# Altium footprint library Sheye-model.PcbLib: 19 footprints (part 1 of 2)
Each footprint in its own frame and in the unit in brackets; x right, y up, seen from the top. Pads: shape width x height; smd on the part's side, far side on the other; paste and mask are expansions set on the pad; w line width, h text height; cw(c..) or ccw(c..) is an arc to the next point about the centre after c.
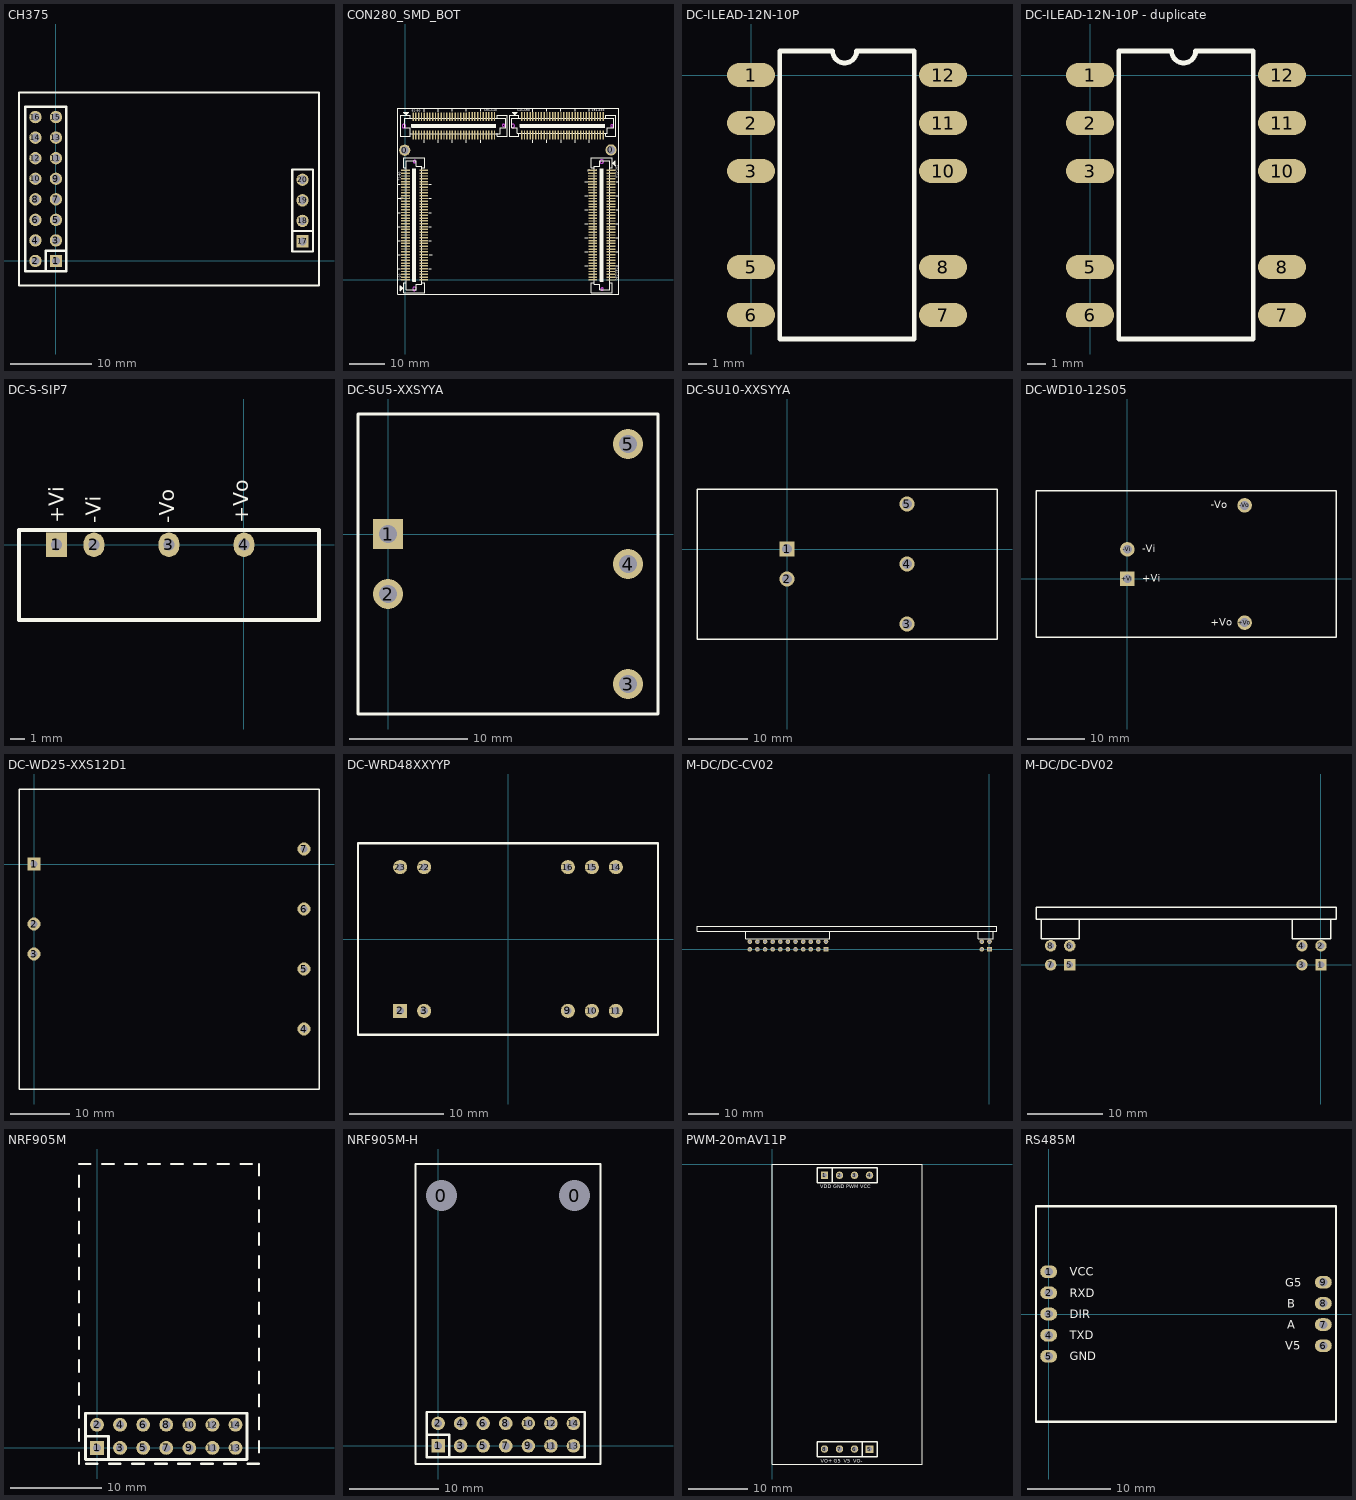
[diagram p0: the footprints below, top view; thin cyan lines are the x and y axes]

## CH375 [mil]
pads (20):
  rect 60x60 hole 40: 1(0,0) 17(1200,95)
  round 60 hole 40: 2(-100,0) 3(0,100) 4(-100,100) 5(0,200) 6(-100,200) 7(0,300) 8(-100,300) 9(0,400) 10(-100,400) 11(0,500) 12(-100,500) 13(0,600) 14(-100,600) 15(0,700) 16(-100,700) 18(1200,195) 19(1200,295) 20(1200,395)
Top Overlay:
  lines w10: 1150,145 1250,145 ; -179.76,-119.93 -179.76,820.07 1280.24,820.07 1280.24,-119.93 -179.76,-119.93 ; 1150,45 1250,45 1250,445 1150,445 1150,45
  lines w12: -50,-50 -50,50 50,50 ; -150,-50 -150,750 50,750 50,-50 -150,-50
3D body: height 433.07, standoff -78.74, extent -11.71,88.22 11.81,111.79
3D body: height 433.07, standoff -78.74, extent -11.71,-11.78 11.82,11.79
3D body: height 433.07, standoff -78.74, extent -111.71,88.22 -88.19,111.79
3D body: height 433.07, standoff -78.74, extent -111.71,-11.78 -88.18,11.79
3D body: height 433.07, standoff -78.74, extent -111.71,188.22 -88.18,211.79
3D body: height 433.07, standoff -78.74, extent -11.71,188.22 11.81,211.79
3D body: height 433.07, standoff -78.74, extent -11.71,288.21 11.81,311.79
3D body: height 433.07, standoff -78.74, extent -111.71,288.21 -88.18,311.79
3D body: height 433.07, standoff -78.74, extent -11.71,388.21 11.82,411.79
3D body: height 433.07, standoff -78.74, extent -111.71,388.21 -88.18,411.79
3D body: height 433.07, standoff -78.74, extent 1188.28,383.21 1211.81,406.79
3D body: height 433.07, standoff -78.74, extent 1188.29,283.22 1211.81,306.79
3D body: height 433.07, standoff -78.74, extent 1188.29,183.22 1211.81,206.79
3D body: height 433.07, standoff -78.74, extent 1188.29,83.21 1211.82,106.79
3D body: height 433.07, standoff -78.74, extent -111.71,488.21 -88.19,511.79
3D body: height 433.07, standoff -78.74, extent -11.71,688.22 11.81,711.79
3D body: height 433.07, standoff -78.74, extent -111.71,588.22 -88.19,611.79
3D body: height 433.07, standoff -78.74, extent -11.71,588.22 11.81,611.79
3D body: height 433.07, standoff -78.74, extent -11.72,488.21 11.81,511.79
3D body: height 433.07, standoff -78.74, extent -111.71,688.22 -88.19,711.79
3D body: height 393.7, standoff 354.33, extent -180,-120 1280,821

## CON280_SMD_BOT [mm]
pads (282):
  round 3.2 hole 2.2: 0(-0.203,36.939) 0(58.522,37.015)
  rect 2.5x0.4 smd: 1(0,0) 2(5.2,0) 3(0,0.8) 4(5.2,0.8) 5(0,1.6) 6(5.2,1.6) 7(0,2.4) 8(5.2,2.4) 9(0,3.2) 10(5.2,3.2) 11(0,4) 12(5.2,4) 13(0,4.8) 14(5.2,4.8) 15(0,5.6) 16(5.2,5.6) 17(0,6.4) 18(5.2,6.4) 19(0,7.2) 20(5.2,7.2) 21(0,8) 22(5.2,8) 23(0,8.8) 24(5.2,8.8) 25(0,9.6) 26(5.2,9.6) 27(0,10.4) 28(5.2,10.4) 29(0,11.2) 30(5.2,11.2) 31(0,12) 32(5.2,12) 33(0,12.8) 34(5.2,12.8) 35(0,13.6) 36(5.2,13.6) 37(0,14.4) 38(5.2,14.4) 39(0,15.2) 40(5.2,15.2) 41(0,16) 42(5.2,16) 43(0,16.8) 44(5.2,16.8) 45(0,17.6) 46(5.2,17.6) 47(0,18.4) 48(5.2,18.4) 49(0,19.2) 50(5.2,19.2) 51(0,20) 52(5.2,20) 53(0,20.8) 54(5.2,20.8) 55(0,21.6) 56(5.2,21.6) 57(0,22.4) 58(5.2,22.4) 59(0,23.2) 60(5.2,23.2) 61(0,24) 62(5.2,24) 63(0,24.8) 64(5.2,24.8) 65(0,25.6) 66(5.2,25.6) 67(0,26.4) 68(5.2,26.4) 69(0,27.2) 70(5.2,27.2) 71(0,28) 72(5.2,28) 73(0,28.8) 74(5.2,28.8) 75(0,29.6) 76(5.2,29.6) 77(0,30.4) 78(5.2,30.4) 79(0,31.2) 80(5.2,31.2) 201(58.5,31.2) 202(53.3,31.2) 203(58.5,30.4) 204(53.3,30.4) 205(58.5,29.6) 206(53.3,29.6) 207(58.5,28.8) 208(53.3,28.8) 209(58.5,28) 210(53.3,28) 211(58.5,27.2) 212(53.3,27.2) 213(58.5,26.4) 214(53.3,26.4) 215(58.5,25.6) 216(53.3,25.6) 217(58.515,24.795) 218(53.315,24.795) 219(58.515,23.995) 220(53.315,23.995) 221(58.515,23.195) 222(53.315,23.195) 223(58.515,22.395) 224(53.315,22.395) 225(58.515,21.595) 226(53.315,21.595) 227(58.515,20.795) 228(53.315,20.795) 229(58.515,19.995) 230(53.315,19.995) 231(58.515,19.195) 232(53.315,19.195) 233(58.515,18.395) 234(53.315,18.395) 235(58.515,17.595) 236(53.315,17.595) 237(58.515,16.795) 238(53.315,16.795) 239(58.515,15.995) 240(53.315,15.995) 241(58.515,15.195) 242(53.315,15.195) 243(58.515,14.395) 244(53.315,14.395) 245(58.515,13.595) 246(53.315,13.595) 247(58.515,12.795) 248(53.315,12.795) 249(58.515,11.995) 250(53.315,11.995) 251(58.515,11.195) 252(53.315,11.195) 253(58.515,10.395) 254(53.315,10.395) 255(58.515,9.595) 256(53.315,9.595) 257(58.515,8.795) 258(53.315,8.795) 259(58.515,7.995) 260(53.315,7.995) 261(58.515,7.195) 262(53.315,7.195) 263(58.515,6.395) 264(53.315,6.395) 265(58.515,5.595) 266(53.315,5.595) 267(58.515,4.795) 268(53.315,4.795) 269(58.515,3.995) 270(53.315,3.995) 271(58.515,3.195) 272(53.315,3.195) 273(58.515,2.395) 274(53.315,2.395) 275(58.515,1.595) 276(53.315,1.595) 277(58.515,0.795) 278(53.315,0.795) 279(58.515,-0.005) 280(53.315,0.006)
  rect 0.4x2.5 smd: 81(2.165,46.497) 82(2.165,41.297) 83(2.965,46.497) 84(2.965,41.297) 85(3.765,46.497) 86(3.765,41.297) 87(4.565,46.497) 88(4.565,41.297) 89(5.365,46.497) 90(5.365,41.297) 91(6.165,46.497) 92(6.165,41.297) 93(6.965,46.497) 94(6.965,41.297) 95(7.765,46.497) 96(7.765,41.297) 97(8.565,46.497) 98(8.565,41.297) 99(9.365,46.497) 100(9.365,41.297) 101(10.165,46.497) 102(10.165,41.297) 103(10.965,46.497) 104(10.965,41.297) 105(11.765,46.497) 106(11.765,41.297) 107(12.565,46.497) 108(12.565,41.297) 109(13.365,46.497) 110(13.365,41.297) 111(14.165,46.497) 112(14.165,41.297) 113(14.965,46.497) 114(14.965,41.297) 115(15.765,46.497) 116(15.765,41.297) 117(16.565,46.497) 118(16.565,41.297) 119(17.365,46.497) 120(17.365,41.297) 121(18.171,46.506) 122(18.171,41.306) 123(18.971,46.506) 124(18.971,41.306) 125(19.771,46.506) 126(19.771,41.306) 127(20.571,46.506) 128(20.571,41.306) 129(21.371,46.506) 130(21.371,41.306) 131(22.171,46.506) 132(22.171,41.306) 133(22.971,46.506) 134(22.971,41.306) 135(23.771,46.506) 136(23.771,41.306) 137(24.571,46.506) 138(24.571,41.306) 139(25.371,46.506) 140(25.371,41.306) 141(33.096,46.506) 142(33.096,41.306) 143(33.896,46.506) 144(33.896,41.306) 145(34.696,46.506) 146(34.696,41.306) 147(35.496,46.506) 148(35.496,41.306) 149(36.296,46.506) 150(36.296,41.306) 151(37.096,46.506) 152(37.096,41.306) 153(37.896,46.506) 154(37.896,41.306) 155(38.696,46.506) 156(38.696,41.306) 157(39.496,46.506) 158(39.496,41.306) 159(40.296,46.506) 160(40.296,41.306) 161(41.096,46.506) 162(41.096,41.306) 163(41.896,46.506) 164(41.896,41.306) 165(42.696,46.506) 166(42.696,41.306) 167(43.496,46.506) 168(43.496,41.306) 169(44.296,46.506) 170(44.296,41.306) 171(45.096,46.506) 172(45.096,41.306) 173(45.896,46.506) 174(45.896,41.306) 175(46.696,46.506) 176(46.696,41.306) 177(47.496,46.506) 178(47.496,41.306) 179(48.296,46.506) 180(48.296,41.306) 181(49.096,46.506) 182(49.096,41.306) 183(49.896,46.506) 184(49.896,41.306) 185(50.696,46.506) 186(50.696,41.306) 187(51.496,46.506) 188(51.496,41.306) 189(52.296,46.506) 190(52.296,41.306) 191(53.096,46.506) 192(53.096,41.306) 193(53.896,46.506) 194(53.896,41.306) 195(54.696,46.506) 196(54.696,41.306) 197(55.496,46.506) 198(55.496,41.306) 199(56.296,46.506) 200(56.296,41.306)
Top Overlay:
  drawing of 210 lines, arcs and shapes, not listed
  text "71-80" at -1.353,28.278 h0.64
  text "131-140" at 22.372,48.014 h0.64
  text "201-210" at 59.922,32.697 h0.64
  text "141-150" at 31.847,47.988 h0.64
  text "281-280" at 59.822,3.503 h0.64
  text "191-200" at 52.997,47.988 h0.64
  text "81-90" at 1.847,47.963 h0.64
  text "1-10" at -1.378,-0.297 h0.64
Keep-Out Layer:
  circle w0.254: c30.569,43.887 r0.5
  circle w0.254: c58.819,43.887 r0.35
  circle w0.254: c-0.428,43.799 r0.5
  circle w0.254: c27.943,43.989 r0.35
  circle w0.254: c55.9,33.697 r0.5
  circle w0.254: c56.006,-2.591 r0.35
  circle w0.254: c2.603,33.707 r0.35
  circle w0.254: c2.578,-2.539 r0.5
Mechanical 1:
  circle w0.254: c30.569,43.887 r0.5
  circle w0.254: c58.819,43.887 r0.35
  circle w0.254: c-0.428,43.799 r0.5
  circle w0.254: c27.943,43.989 r0.35
  circle w0.254: c55.9,33.697 r0.5
  circle w0.254: c56.006,-2.591 r0.35
  circle w0.254: c2.603,33.707 r0.35
  circle w0.254: c2.578,-2.539 r0.5
Drill Drawing:
  circle w0.254: c30.569,43.887 r0.5
  circle w0.254: c58.819,43.887 r0.35
  circle w0.254: c-0.428,43.799 r0.5
  circle w0.254: c27.943,43.989 r0.35
  circle w0.254: c55.9,33.697 r0.5
  circle w0.254: c56.006,-2.591 r0.35
  circle w0.254: c2.603,33.707 r0.35
  circle w0.254: c2.578,-2.539 r0.5

## DC-ILEAD-12N-10P [mm]
height 0.508
pads (10):
  oval 2.54x1.27 smd: 1(0,0) 2(0,-2.54) 3(0,-5.08) 5(0,-10.16) 6(0,-12.7) 7(10.16,-12.7) 8(10.16,-10.16) 10(10.16,-5.08) 11(10.16,-2.54) 12(10.16,0)
Top Overlay:
  lines w0.254: 1.524,-13.97 1.524,1.27 4.318,1.27 ccw(c4.953,1.27) 5.588,1.27 8.636,1.27 8.636,-13.97 1.524,-13.97
3D body: height 6.5, standoff 0, extent 1.524,-13.97 8.636,1.245

## DC-ILEAD-12N-10P - duplicate [mm]
height 0.508
pads (10):
  oval 2.54x1.27 smd: 1(0,0) 2(0,-2.54) 3(0,-5.08) 5(0,-10.16) 6(0,-12.7) 7(10.16,-12.7) 8(10.16,-10.16) 10(10.16,-5.08) 11(10.16,-2.54) 12(10.16,0)
Top Overlay:
  lines w0.254: 1.524,-13.97 1.524,1.27 4.318,1.27 ccw(c4.953,1.27) 5.588,1.27 8.636,1.27 8.636,-13.97 1.524,-13.97
3D body: height 6.5, standoff 0, extent 1.524,-13.97 8.636,1.245

## DC-S-SIP7 [mil]
pads (4):
  rect 55x65 hole 30: 1(-500,0)
  oval 55x65 hole 30: 2(-400,0) 3(-200,0) 4(0,0)
Top Overlay:
  lines w10: -599.86,-200.47 200,-200.47 200,39.53 -599.86,39.53 -599.86,-200.47
  text "+Vo" at 11.48,58.13 h40
  text "-Vo" at -185.37,58.13 h40
  text "+Vi" at -480.65,58.13 h40
  text "-Vi" at -382.22,58.13 h40
3D body: height 39.37, standoff -78.74, extent -11.86,-11.5 11.67,12.08
3D body: height 39.37, standoff -78.74, extent -212.1,-11.5 -188.57,12.08
3D body: height 39.37, standoff -78.74, extent -412.33,-11.71 -388.8,11.87
3D body: height 39.37, standoff -78.74, extent -512.1,-11.92 -488.57,11.65
3D body: height 433.07, standoff 39.37, extent -600.33,-200.92 159.67,39.08

## DC-SU5-XXSYYA [mil]
pads (5):
  rect 100x100 hole 60: 1(0,0)
  round 100 hole 60: 2(0,-200) 3(800,-500) 4(800,-100) 5(800,300)
Top Overlay:
  lines w10: -100,-600 -100,400 900,400 900,-600 -100,-600
3D body: height 39.37, standoff -78.74, extent 780,280.35 819.21,319.65
3D body: height 39.37, standoff -78.74, extent 780,-119.65 819.21,-80.35
3D body: height 39.37, standoff -78.74, extent 780.39,-519.29 819.61,-480
3D body: height 39.37, standoff -78.74, extent -20,-219.65 19.21,-180.35
3D body: height 39.37, standoff -78.74, extent -19.21,-19.65 20,19.65
3D body: height 433.07, standoff 39.37, extent -100,-600 900,400

## DC-SU10-XXSYYA [mm]
pads (5):
  rect 2.54x2.54 hole 1.7: 1(0,0)
  round 2.54 hole 1.7: 2(0,-5.08) 3(20.32,-12.7) 4(20.32,-2.54) 5(20.32,7.62)
Top Overlay:
  lines w0.254: -15.24,-15.24 35.56,-15.24 35.56,10.16 -15.24,10.16 -15.24,-15.24
3D body: height 1, standoff -2, extent 19.685,-13.299 20.88,-12.101
3D body: height 1, standoff -2, extent 19.76,-3.139 20.955,-1.941
3D body: height 1, standoff -2, extent 19.76,7.021 20.955,8.219
3D body: height 1, standoff -2, extent -0.598,-5.643 0.598,-4.445
3D body: height 1, standoff -2, extent -0.598,-0.635 0.598,0.563
3D body: height 11, standoff 1, extent -15.24,-15.24 35.56,10.16

## DC-WD10-12S05 [mil]
pads (4):
  rect 100x100 hole 60: +Vi(0,0)
  round 100 hole 60: +Vo(800,-300) -Vi(0,200) -Vo(800,500)
Top Overlay:
  lines w10: -623.62,-400 -623.62,600 1423.62,600 1423.62,-400 -623.62,-400
  text "+Vo" at 570,-320 h50
  text "-Vo" at 570,480 h50
  text "+Vi" at 100,-20 h50
  text "-Vi" at 100,180 h50
3D body: height 39.37, standoff -78.74, extent 776.47,475 823.53,522.15
3D body: height 39.37, standoff -78.74, extent 777.94,-323.58 825,-276.42
3D body: height 39.37, standoff -78.74, extent -23.53,-22.15 23.53,25
3D body: height 39.37, standoff -78.74, extent -25,176.42 22.06,223.58
3D body: height 433.07, standoff 39.37, extent -625,-400 1425,600

## DC-WD25-XXS12D1 [mm] "DC-DC模块"
pads (7):
  rect 2.2x2.2 hole 1.2: 1(0,0)
  round 2.2 hole 1.2: 2(0,-10.16) 3(0,-15.24) 4(45.72,-27.94) 5(45.72,-17.78) 6(45.72,-7.62) 7(45.72,2.54)
Top Overlay:
  lines w0.254: -2.54,-38.1 48.26,-38.1 48.26,12.7 -2.54,12.7 -2.54,-38.1
3D body: height 13, standoff 1, extent -2.54,-38.1 48.26,12.7
3D body: height 1, standoff -2, extent -0.402,-15.621 0.395,-14.823
3D body: height 1, standoff -2, extent -0.419,-10.559 0.378,-9.761
3D body: height 1, standoff -2, extent -0.402,-0.417 0.395,0.381
3D body: height 1, standoff -2, extent 45.318,2.159 46.115,2.957
3D body: height 1, standoff -2, extent 45.301,-8.019 46.098,-7.221
3D body: height 1, standoff -2, extent 45.301,-18.179 46.098,-17.381
3D body: height 1, standoff -2, extent 45.318,-28.321 46.115,-27.523

## DC-WRD48XXYYP [mm] "DC-DC模块"
pads (10):
  rect 1.5x1.5 hole 0.8: 2(-11.43,-7.62)
  round 1.5 hole 0.8: 3(-8.89,-7.62) 9(6.35,-7.62) 10(8.89,-7.62) 11(11.43,-7.62) 14(11.43,7.62) 15(8.89,7.62) 16(6.35,7.62) 22(-8.89,7.62) 23(-11.43,7.62)
Top Overlay:
  lines w0.254: -15.9,-10.15 15.9,-10.15 15.9,10.15 -15.9,10.15 -15.9,-10.15
3D body: height 1, standoff -2, extent 11.131,7.326 11.729,7.925
3D body: height 1, standoff -2, extent 8.591,7.326 9.189,7.925
3D body: height 1, standoff -2, extent 6.045,7.321 6.643,7.919
3D body: height 1, standoff -2, extent 11.137,-7.919 11.735,-7.321
3D body: height 1, standoff -2, extent 8.585,-7.919 9.183,-7.321
3D body: height 1, standoff -2, extent 6.051,-7.914 6.649,-7.315
3D body: height 1, standoff -2, extent -9.189,-7.914 -8.591,-7.315
3D body: height 1, standoff -2, extent -11.729,-7.914 -11.131,-7.315
3D body: height 1, standoff -2, extent -9.183,7.321 -8.585,7.919
3D body: height 1, standoff -2, extent -11.729,7.315 -11.131,7.914
3D body: height 13, standoff 1, extent -15.9,-10.16 15.9,10.16

## M-DC/DC-CV02 [mil]
pads (26):
  rect 60x60 hole 35: 1(0,0) 5(-2145.67,0)
  round 60 hole 35: 2(0,100) 3(-100,0) 4(-100,100) 6(-2145.67,100) 7(-2245.67,0) 8(-2245.67,100) 9(-2345.67,0) 10(-2345.67,100) 11(-2445.67,0) 12(-2445.67,100) 13(-2545.67,0) 14(-2545.67,100) 15(-2645.67,0) 16(-2645.67,100) 17(-2745.67,0) 18(-2745.67,100) 19(-2845.67,0) 20(-2845.67,100) 21(-2945.67,0) 22(-2945.67,100) 23(-3045.67,0) 24(-3045.67,100) 25(-3145.67,0) 26(-3145.67,100)
Top Overlay:
  lines w7.87: -3195.67,237.8 -3195.67,137.8 -2095.67,137.8 -2095.67,237.8 -3096.06,237.8 ; -3838.58,237.8 98.43,237.8 98.43,300.79 -3838.58,300.79 -3838.58,237.8 ; -150,137.8 50,137.8 50,237.8 -150,237.8 -150,137.8
3D body: height 59.06, standoff -78.74, extent -3161.29,84.28 -3129.92,115.72
3D body: height 159.06, standoff -78.74, extent -3161.36,-16 -3129.98,15.43
3D body: height 174.68, standoff 143.31, extent -3161.39,0 -3129.95,359.84
3D body: height 200, standoff 0, extent -150,137.8 49.19,237.8
3D body: height 174.68, standoff 143.31, extent -115.72,0 -84.28,359.84
3D body: height 74.68, standoff 43.31, extent -115.72,100 -84.28,359.84
3D body: height 159.06, standoff -78.74, extent -115.69,-16 -84.31,15.43
3D body: height 59.06, standoff -78.74, extent -115.62,84.28 -84.25,115.72
3D body: height 59.06, standoff -78.74, extent -15.62,84.28 15.75,115.72
3D body: height 159.06, standoff -78.74, extent -15.69,-16 15.69,15.43
3D body: height 74.68, standoff 43.31, extent -15.72,100 15.72,359.84
3D body: height 174.68, standoff 143.31, extent -15.72,0 15.72,359.84
3D body: height 174.68, standoff 143.31, extent -2161.39,0 -2129.95,359.84
3D body: height 74.68, standoff 43.31, extent -2161.39,100 -2129.95,359.84
3D body: height 159.06, standoff -78.74, extent -2161.36,-16 -2129.98,15.43
3D body: height 59.06, standoff -78.74, extent -2161.29,84.28 -2129.92,115.72
3D body: height 59.06, standoff -78.74, extent -2261.29,84.28 -2229.92,115.72
3D body: height 159.06, standoff -78.74, extent -2261.36,-16 -2229.98,15.43
3D body: height 74.68, standoff 43.31, extent -2261.39,100 -2229.95,359.84
3D body: height 174.68, standoff 143.31, extent -2261.39,0 -2229.95,359.84
3D body: height 59.06, standoff -78.74, extent -2361.29,84.28 -2329.92,115.72
3D body: height 59.06, standoff -78.74, extent -2461.29,84.28 -2429.92,115.72
3D body: height 159.06, standoff -78.74, extent -2361.36,-16 -2329.98,15.43
3D body: height 159.06, standoff -78.74, extent -2461.36,-16 -2429.98,15.43
3D body: height 174.68, standoff 143.31, extent -2361.39,0 -2329.95,359.84
3D body: height 174.68, standoff 143.31, extent -2461.39,0 -2429.95,359.84
3D body: height 74.68, standoff 43.31, extent -2361.39,100 -2329.95,359.84
3D body: height 74.68, standoff 43.31, extent -2461.39,100 -2429.95,359.84
3D body: height 59.06, standoff -78.74, extent -2561.29,84.28 -2529.92,115.72
3D body: height 159.06, standoff -78.74, extent -2561.36,-16 -2529.98,15.43
3D body: height 74.68, standoff 43.31, extent -2561.39,100 -2529.95,359.84
3D body: height 174.68, standoff 143.31, extent -2561.39,0 -2529.95,359.84
3D body: height 59.06, standoff -78.74, extent -2661.29,84.28 -2629.92,115.72
3D body: height 59.06, standoff -78.74, extent -2761.29,84.28 -2729.92,115.72
3D body: height 159.06, standoff -78.74, extent -2661.36,-16 -2629.98,15.43
3D body: height 159.06, standoff -78.74, extent -2761.36,-16 -2729.98,15.43
3D body: height 174.68, standoff 143.31, extent -2661.39,0 -2629.95,359.84
3D body: height 174.68, standoff 143.31, extent -2761.39,0 -2729.95,359.84
3D body: height 74.68, standoff 43.31, extent -2661.39,100 -2629.95,359.84
3D body: height 74.68, standoff 43.31, extent -2761.39,100 -2729.95,359.84
3D body: height 74.68, standoff 43.31, extent -3061.39,100 -3029.95,359.84
3D body: height 74.68, standoff 43.31, extent -2961.39,100 -2929.95,359.84
3D body: height 174.68, standoff 143.31, extent -3061.39,0 -3029.95,359.84
3D body: height 174.68, standoff 143.31, extent -2961.39,0 -2929.95,359.84
3D body: height 159.06, standoff -78.74, extent -3061.36,-16 -3029.98,15.43
3D body: height 159.06, standoff -78.74, extent -2961.36,-16 -2929.98,15.43
3D body: height 59.06, standoff -78.74, extent -3061.29,84.28 -3029.92,115.72
3D body: height 59.06, standoff -78.74, extent -2961.29,84.28 -2929.92,115.72
3D body: height 174.68, standoff 143.31, extent -2861.39,0 -2829.95,359.84
3D body: height 200, standoff 0, extent -3195.67,137.8 -2095.67,237.8
3D body: height 74.68, standoff 43.31, extent -2861.39,100 -2829.95,359.84
3D body: height 159.06, standoff -78.74, extent -2861.36,-16 -2829.98,15.43
3D body: height 1377.95, standoff 0, extent -3838.58,236.22 98.43,300.79
3D body: height 59.06, standoff -78.74, extent -2861.29,84.28 -2829.92,115.72
3D body: height 74.68, standoff 43.31, extent -3161.39,100 -3129.95,359.84
3D body: height 74.68, standoff 43.31, extent -3061.39,100 -3029.95,359.84

## M-DC/DC-DV02 [mil]
pads (8):
  rect 60x60 hole 35: 1(0,0) 5(-1318.9,0)
  round 60 hole 35: 2(0,100) 3(-100,0) 4(-100,100) 6(-1318.9,100) 7(-1418.9,0) 8(-1418.9,100)
Top Overlay:
  lines w7.87: -1496.06,237.8 78.74,237.8 78.74,300.79 -1496.06,300.79 -1496.06,237.8 ; -1468.9,137.8 -1268.9,137.8 -1268.9,237.8 -1468.9,237.8 -1468.9,137.8 ; -150,137.8 -150,237.8 50,237.8 50,137.8 -150,137.8
3D body: height 854.9, standoff 501.97, extent -983.9,-137.8 -630.27,59.06
3D body: height 200, standoff 0, extent -1468.9,137.8 -1269.7,237.8
3D body: height 174.68, standoff 143.31, extent -1434.61,0 -1403.18,359.84
3D body: height 74.68, standoff 43.31, extent -1434.61,100 -1403.18,359.84
3D body: height 159.06, standoff -78.74, extent -1434.58,-16 -1403.21,15.43
3D body: height 59.06, standoff -78.74, extent -1434.52,84.28 -1403.15,115.72
3D body: height 59.06, standoff -78.74, extent -1334.52,84.28 -1303.15,115.72
3D body: height 159.06, standoff -78.74, extent -1334.58,-16 -1303.21,15.43
3D body: height 74.68, standoff 43.31, extent -1334.61,100 -1303.18,359.84
3D body: height 174.68, standoff 143.31, extent -1334.61,0 -1303.18,359.84
3D body: height 174.68, standoff 143.31, extent -15.72,0 15.72,359.84
3D body: height 74.68, standoff 43.31, extent -15.72,100 15.72,359.84
3D body: height 159.06, standoff -78.74, extent -15.69,-16 15.69,15.43
3D body: height 59.06, standoff -78.74, extent -15.62,84.28 15.75,115.72
3D body: height 59.06, standoff -78.74, extent -115.62,84.28 -84.25,115.72
3D body: height 159.06, standoff -78.74, extent -115.69,-16 -84.31,15.43
3D body: height 74.68, standoff 43.31, extent -115.72,100 -84.28,359.84
3D body: height 174.68, standoff 143.31, extent -115.72,0 -84.28,359.84
3D body: height 200, standoff 0, extent -150,137.8 49.19,237.8
3D body: height 984.25, standoff 0, extent -1496.06,237.8 78.74,300.79
3D body: height 875.98, standoff 482.28, extent -1003.94,59.06 -610.24,237.8

## NRF905M [mil]
pads (14):
  rect 60x60 hole 35: 1(0,0)
  round 60 hole 35: 2(0,100) 3(100,0) 4(100,100) 5(200,0) 6(200,100) 7(300,0) 8(300,100) 9(400,0) 10(400,100) 11(500,0) 12(500,100) 13(600,0) 14(600,100)
Top Overlay:
  lines w10: -78.11,230 -78.11,280 ; -78.11,330 -78.11,380 ; -78.11,430 -78.11,480 ; -78.11,530 -78.11,580 ; -78.11,630 -78.11,680 ; -78.11,730 -78.11,780 ; -78.11,830 -78.11,880 ; -78.11,930 -78.11,980 ; -78.11,1030 -78.11,1080 ; -78.11,1130 -78.11,1180 ; -78,-70 -78,-20 ; -78,30 -78,80 ; -78,130 -78,180 ; -78,1230 -28,1230 ; -48,-69.53 2,-69.53 ; 22,1230 72,1230 ; 52,-69.53 102,-69.53 ; 122,1230 172,1230 ; 152,-69.53 202,-69.53 ; 222,1230 272,1230 ; 252,-69.53 302,-69.53 ; 322,1230 372,1230 ; 352,-69.53 402,-69.53 ; 422,1230 472,1230 ; 452,-69.53 502,-69.53 ; 522,1230 572,1230 ; 552,-69.53 602,-69.53 ; 622,1230 672,1230 ; 652,-69.53 702,-69.53 ; 701.89,180 701.89,230 ; 701.89,280 701.89,330 ; 701.89,380 701.89,430 ; 701.89,480 701.89,530 ; 701.89,580 701.89,630 ; 701.89,680 701.89,730 ; 701.89,780 701.89,830 ; 701.89,880 701.89,930 ; 701.89,980 701.89,1030 ; 701.89,1080 701.89,1130 ; 701.89,1180 701.89,1230 ; 702,-20 702,30 ; 702,80 702,130
  lines w12: -50,50 50,50 50,-50 ; -50,-50 -50,150 650,150 650,-50 -50,-50
3D body: height 433.07, standoff -78.74, extent -11.53,-11.79 12,11.79
3D body: height 433.07, standoff -78.74, extent 88.47,-11.79 112,11.79
3D body: height 433.07, standoff -78.74, extent 188.24,-12 211.76,11.58
3D body: height 433.07, standoff -78.74, extent 288.24,-11.58 311.76,12
3D body: height 433.07, standoff -78.74, extent 388.24,-11.58 411.76,12
3D body: height 433.07, standoff -78.74, extent 488.47,-11.79 512,11.79
3D body: height 433.07, standoff -78.74, extent 588.47,-11.79 612,11.79
3D body: height 433.07, standoff -78.74, extent 588.47,88.21 612,111.79
3D body: height 433.07, standoff -78.74, extent 488.47,88.21 512,111.79
3D body: height 433.07, standoff -78.74, extent 388.24,88.42 411.76,112
3D body: height 433.07, standoff -78.74, extent 288,88.21 311.53,111.79
3D body: height 433.07, standoff -78.74, extent 188.47,88.21 212,111.79
3D body: height 433.07, standoff -78.74, extent 88.47,88.21 112,111.79
3D body: height 433.07, standoff -78.74, extent -11.76,88.42 11.76,112
3D body: height 393.7, standoff 354.33, extent -78,-70 702,1230

## NRF905M-H [mil]
pads (16):
  round 130 hole 138: 0(15.07,1109.76) 0(605.07,1109.76)
  rect 60x60 hole 35: 1(0,0)
  round 60 hole 35: 2(0,100) 3(100,0) 4(100,100) 5(200,0) 6(200,100) 7(300,0) 8(300.07,99.76) 9(400.07,-0.24) 10(400.07,99.76) 11(500.07,-0.24) 12(500.07,99.76) 13(600.07,-0.24) 14(600.07,99.76)
Top Overlay:
  lines w10: -100,149.76 -100,-80.24 720.07,-80.24 720.07,1249.76 -99.93,1249.76 -99.93,149.76 ; -50,49.76 50,49.76 50,-50.24 ; -50,-50.24 -50,149.76 650,149.76 650,-50.24 -50,-50.24
3D body: height 393.7, standoff 354.33, extent -100,-80 720,1250
3D body: height 433.07, standoff -78.74, extent -9.76,88.42 13.76,112
3D body: height 433.07, standoff -78.74, extent 90.47,88.21 114,111.79
3D body: height 433.07, standoff -78.74, extent 190.47,88.21 214,111.79
3D body: height 433.07, standoff -78.74, extent 290,88.21 313.53,111.79
3D body: height 433.07, standoff -78.74, extent 390.24,88.42 413.76,112
3D body: height 433.07, standoff -78.74, extent 490.47,88.21 514,111.79
3D body: height 433.07, standoff -78.74, extent 590.47,88.21 614,111.79
3D body: height 433.07, standoff -78.74, extent 590.47,-11.79 614,11.79
3D body: height 433.07, standoff -78.74, extent 490.47,-11.79 514,11.79
3D body: height 433.07, standoff -78.74, extent 390.24,-11.58 413.76,12
3D body: height 433.07, standoff -78.74, extent 290.24,-11.58 313.76,12
3D body: height 433.07, standoff -78.74, extent 190.24,-12 213.76,11.58
3D body: height 433.07, standoff -78.74, extent 90.47,-11.79 114,11.79
3D body: height 433.07, standoff -78.74, extent -9.53,-11.79 14,11.79
3D body: height 433.07, standoff -78.74, extent -24.43,1069.71 54,1148.29
3D body: height 433.07, standoff -78.74, extent 566.79,1070.42 645.21,1149

## PWM-20mAV11P [mil]
pads (8):
  rect 50x50 hole 32: 1(350,-75) 5(650,-1900)
  round 50 hole 32: 2(450,-75) 3(550,-75) 4(650,-75) 6(550,-1900) 7(450,-1900) 8(350,-1900)
Top Overlay:
  lines w5: 0,-2000 1000,-2000 1000,0 0,0 0,-2000
  lines w10: 400,-125 400,-25 ; 600,-1950 600,-1850 ; 300,-1950 700,-1950 700,-1850 300,-1850 300,-1950 ; 300,-125 300,-25 700,-25 700,-125 300,-125
  text "VO+ G5  V5  VO-" at 325,-1990 h25
  text "VDD GND PWM VCC" at 320,-160 h25

## RS485M [mil]
pads (9):
  oval 80x60 hole 40: 1(-0.43,200) 2(-0.43,100) 3(-0.43,0) 4(-0.43,-100) 5(-0.43,-200) 6(1299.57,-150) 7(1299.57,-50) 8(1299.57,50) 9(1299.57,150)
Top Overlay:
  lines w10: -60.43,-510 -60.43,510 1359.57,510 1359.57,-510 -60.43,-510
  text "B" at 1129.57,30 h40
  text "A" at 1129.57,-70 h40
  text "G5" at 1119.57,130 h40
  text "V5" at 1119.57,-170 h40
  text "RXD" at 99.57,80 h40
  text "TXD" at 99.57,-120 h40
  text "GND" at 99.57,-220 h40
  text "VCC" at 99.57,180 h40
  text "DIR" at 99.57,-20 h40